# Altium schematic symbol library MySchlib.SchLib: 22 symbols
Pins are listed as number, name and electrical type; pins without a type are passive.

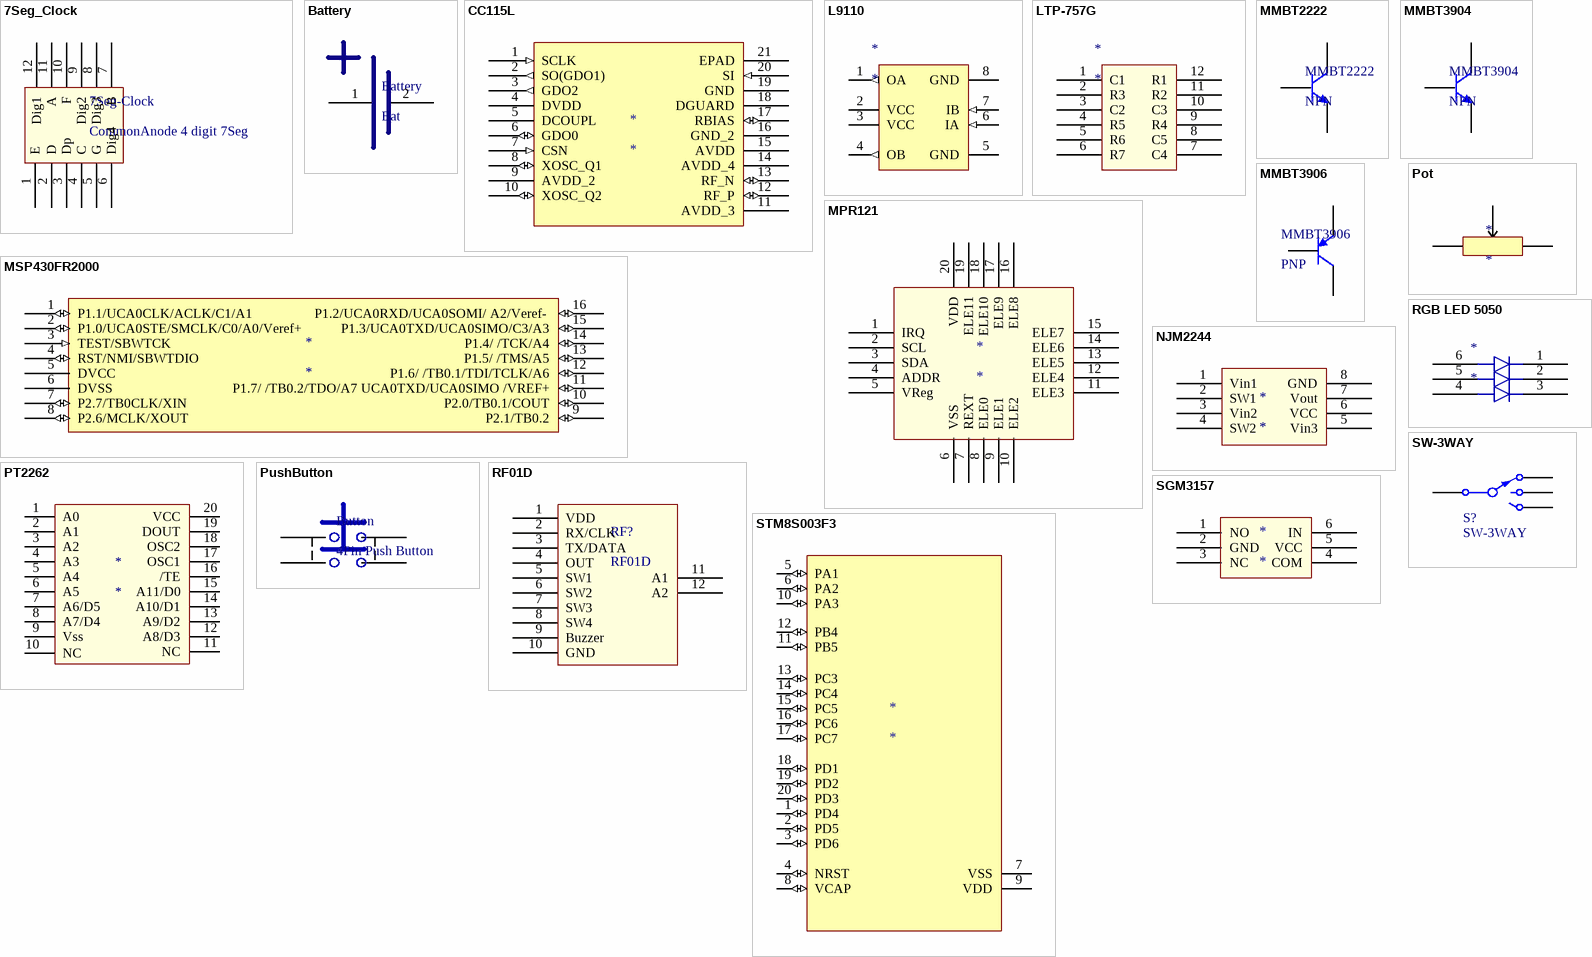
[diagram p0: symbols 7Seg_Clock to SW-3WAY]

## 7Seg_Clock
designator 7Seg-Clock, comment CommonAnode 4 digit 7Seg
footprint 7Seg-4Digits
footprint 7Seg-3Digits
pins: 1 E, 2 D, 3 Dp, 4 C, 5 G, 6 Dig4, 7 B, 8 Dig3, 9 Dig2, 10 F, 11 A, 12 Dig1

## Battery
designator Battery, comment Bat
footprint Battry- C2032
footprint BK-5033 (2450 battery holder)
pins: 1, 2

## CC115L
designator *
footprint CC115LRGPR
pins: 1 SCLK (in), 2 SO(GDO1) (out), 3 GDO2 (out), 4 DVDD (power), 5 DCOUPL (power), 6 GDO0 (io), 7 CSN (in), 8 XOSC_Q1 (io), 9 AVDD_2 (power), 10 XOSC_Q2 (io), 11 AVDD_3 (power), 12 RF_P (io), 13 RF_N (io), 14 AVDD_4 (power), 15 AVDD (power), 16 GND_2 (power), 17 RBIAS (io), 18 DGUARD (power), 19 GND (power), 20 SI (in), 21 EPAD

## L9110
designator *
pins: 1 OA (out), 2 VCC (power), 3 VCC (power), 4 OB (out), 5 GND (power), 6 IA (in), 7 IB (in), 8 GND (power)

## LTP-757G
designator *
footprint LTP-757G
pins: 1 C1, 2 R3, 3 C2, 4 R5, 5 R6, 6 R7, 7 C4, 8 C5, 9 R4, 10 C3, 11 R2, 12 R1

## MMBT2222
designator MMBT2222, comment NPN
footprint SOT23-MMBT
pins: 1 E, 2 B, 3 C

## MMBT3904
designator MMBT3904, comment NPN
footprint SOT23-MMBT
pins: 1 E, 2 B, 3 C

## MMBT3906
designator MMBT3906, comment PNP
footprint SOT23-MMBT
pins: 1 B, 2 E, 3 C

## MPR121
designator *
footprint QFN20 - 3*3
pins: 1 IRQ, 2 SCL, 3 SDA, 4 ADDR, 5 VReg, 6 VSS, 7 REXT, 8 ELE0, 9 ELE1, 10 ELE2, 11 ELE3, 12 ELE4, 13 ELE5, 14 ELE6, 15 ELE7, 16 ELE8, 17 ELE9, 18 ELE10, 19 ELE11, 20 VDD

## MSP430FR2000
designator *
footprint TSSOP16
pins: 1 P1.1/UCA0CLK/ACLK/C1/A1 (io), 2 P1.0/UCA0STE/SMCLK/C0/A0/Veref+ (io), 3 TEST/SBWTCK (in), 4 RST/NMI/SBWTDIO (io), 5 DVCC (power), 6 DVSS (power), 7 P2.7/TB0CLK/XIN (io), 8 P2.6/MCLK/XOUT (io), 9 P2.1/TB0.2 (io), 10 P2.0/TB0.1/COUT (io), 11 P1.7/ /TB0.2/TDO/A7 UCA0TXD/UCA0SIMO /VREF+ (io), 12 P1.6/ /TB0.1/TDI/TCLK/A6 (io), 13 P1.5/ /TMS/A5 (io), 14 P1.4/ /TCK/A4 (io), 15 P1.3/UCA0TXD/UCA0SIMO/C3/A3 (io), 16 P1.2/UCA0RXD/UCA0SOMI/ A2/Veref-  (io)

## NJM2244
designator *
footprint DMP8
pins: 1 Vin1, 2 SW1, 3 Vin2, 4 SW2, 5 Vin3, 6 VCC, 7 Vout, 8 GND

## Pot
designator *
footprint Pot
pins: 1, 2, 3

## PT2262
designator *
footprint SOP20
pins: 1 A0, 2 A1, 3 A2, 4 A3, 5 A4, 6 A5, 7 A6/D5, 8 A7/D4, 9 Vss, 10 NC, 11 NC, 12 A8/D3, 13 A9/D2, 14 A10/D1, 15 A11/D0, 16 /TE, 17 OSC1, 18 OSC2, 19 DOUT, 20 VCC

## PushButton
designator Button, comment 4Pin Push Button
footprint PushButton_4pin
footprint SW4-SMD
footprint SMD-BUTTON
pins: 1, 2, 3, 4

## RF01D
designator RF?
footprint RF01D
pins: 1 VDD, 2 RX/CLK, 3 TX/DATA, 4 OUT, 5 SW1, 6 SW2, 7 SW3, 8 SW4, 9 Buzzer, 10 GND, 11 A1, 12 A2

## RGB LED 5050
designator *
footprint 5050 LED
pins: 1, 2, 3, 4, 5, 6

## SGM3157
designator *
footprint SC70-LT6_M (Footprint not found)
pins: 1 NO, 2 GND, 3 NC, 4 COM, 5 VCC, 6 IN

## STM8S003F3
designator *
pins: 1 PD4 (io), 2 PD5 (io), 3 PD6 (io), 4 NRST (io), 5 PA1 (io), 6 PA2 (io), 7 VSS (power), 8 VCAP (io), 9 VDD (power), 10 PA3 (io), 11 PB5 (io), 12 PB4 (io), 13 PC3 (io), 14 PC4 (io), 15 PC5 (io), 16 PC6 (io), 17 PC7 (io), 18 PD1 (io), 19 PD2 (io), 20 PD3 (io)

## SW-3WAY
designator S?
Published: 24-Mar-1999; LatestRevisionDate: 17-Jul-2002; LatestRevisionNote: Re-released for DXP Platform.; PackageReference: SW-7; Publisher: Altium Limited; PackageDescription: Switch; 7 Leads
footprint SW-3C
pins: 1, 2, 3, 4

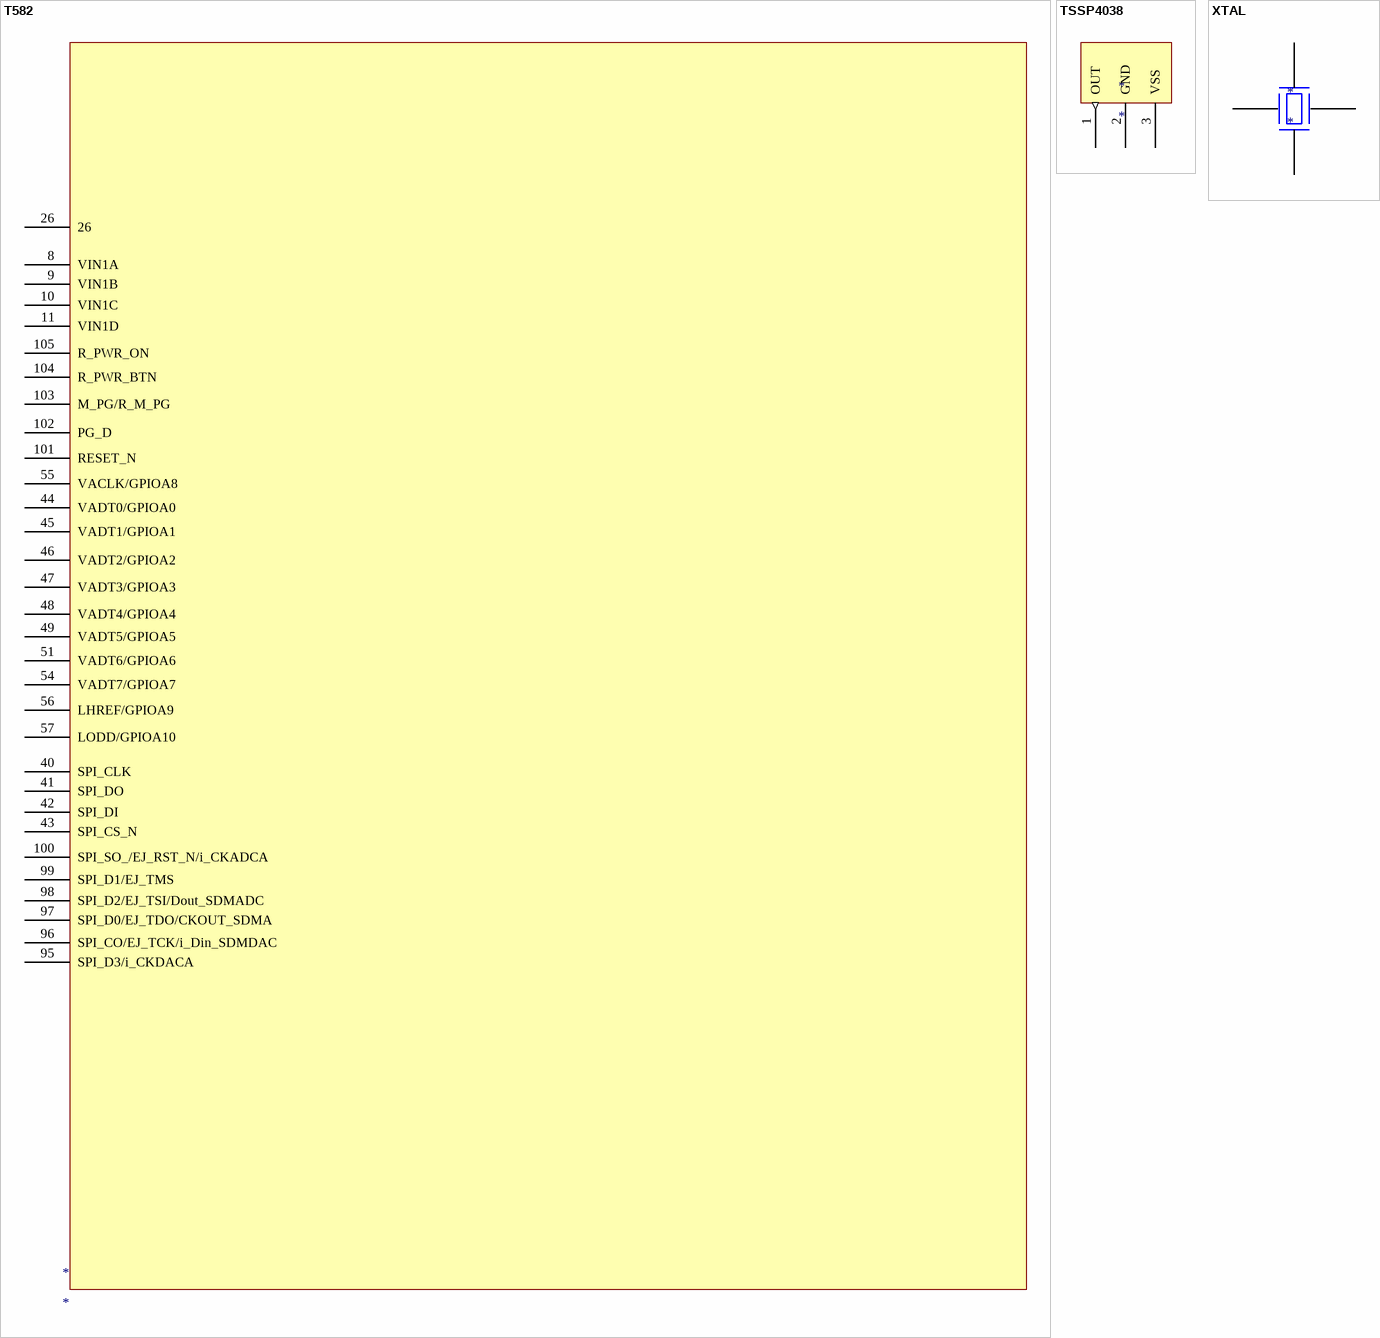
[diagram p1: symbols T582 to XTAL]

## T582
designator *
pins: 8 VIN1A, 9 VIN1B, 10 VIN1C, 11 VIN1D, 26, 40 SPI_CLK, 41 SPI_DO, 42 SPI_DI, 43 SPI_CS_N, 44 VADT0/GPIOA0, 45 VADT1/GPIOA1, 46 VADT2/GPIOA2, 47 VADT3/GPIOA3, 48 VADT4/GPIOA4, 49 VADT5/GPIOA5, 51 VADT6/GPIOA6, 54 VADT7/GPIOA7, 55 VACLK/GPIOA8, 56 LHREF/GPIOA9, 57 LODD/GPIOA10, 95 SPI_D3/i_CKDACA, 96 SPI_CO/EJ_TCK/i_Din_SDMDAC, 97 SPI_D0/EJ_TDO/CKOUT_SDMA, 98 SPI_D2/EJ_TSI/Dout_SDMADC, 99 SPI_D1/EJ_TMS, 100 SPI_SO_/EJ_RST_N/i_CKADCA, 101 RESET_N, 102 PG_D, 103 M_PG/R_M_PG, 104 R_PWR_BTN, 105 R_PWR_ON

## TSSP4038
designator *
footprint TSSP4038
pins: 1 OUT (out), 2 GND (power), 3 VSS (power)

## XTAL
designator *
footprint XTAL SMD
pins: 1, 2, 3, 4